# EAGLE library part SE2435L (library LoRa Gateway)
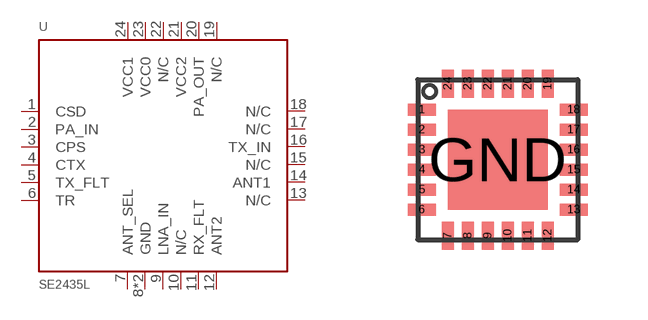
[diagram p7: symbol with the pads of VQFN24-4X4; footprint VQFN24-4X4]

Designator prefix U

## SE2435L  [VQFN24-4X4]
1  CSD
2  PA_IN
3  CPS
4  CTX
5  TX_FLT
6  TR
7  ANT_SEL
8  GND
9  LNA_IN
10  N/C
11  RX_FLT
12  ANT2
13  N/C
14  ANT1
15  N/C
16  TX_IN
17  N/C
18  N/C
19  N/C
20  PA_OUT
21  VCC2
22  N/C
23  VCC0
24  VCC1
GND  GND

## Footprint VQFN24-4X4 (pad centres in mm)
smd 0.7 x 0.3: 1 -1.9,1.25; 2 -1.9,0.75; 3 -1.9,0.25; 4 -1.9,-0.25; 5 -1.9,-0.75; 6 -1.9,-1.25; 13 1.9,-1.25; 14 1.9,-0.75; 15 1.9,-0.25; 16 1.9,0.25; 17 1.9,0.75; 18 1.9,1.25
smd 0.3 x 0.7: 7 -1.25,-1.9; 8 -0.75,-1.9; 9 -0.25,-1.9; 10 0.25,-1.9; 11 0.75,-1.9; 12 1.25,-1.9; 19 1.25,1.9; 20 0.75,1.9; 21 0.25,1.9; 22 -0.25,1.9; 23 -0.75,1.9; 24 -1.25,1.9
smd 2.5 x 2.5: GND 0,0